# Altium schematic symbol library 2024-01-13_18-25-12.SchLib: 1 symbol
Pins are listed as number, name and electrical type; pins without a type are passive.

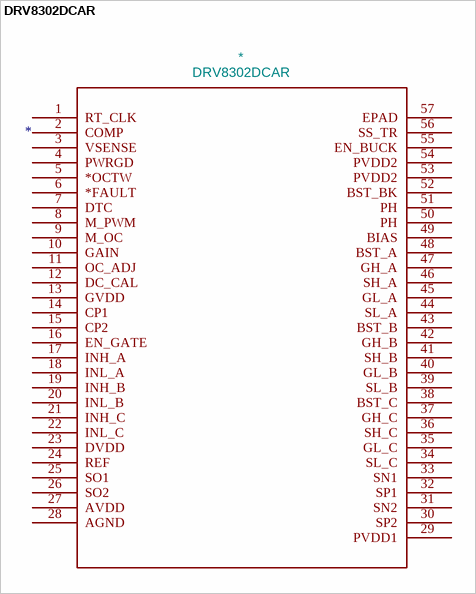
[diagram p0: symbol DRV8302DCAR]

## DRV8302DCAR
designator *  value DRV8302DCAR
ki_fp_filters: DCA56_6P35X3P61 DCA56_6P35X3P61-M DCA56_6P35X3P61-L; Footprint: DCA56_6P35X3P61; Supplier: DRV8302DCAR; ki_keywords: DRV8302DCAR
footprint DCA56_6P35X3P61
pins: 1 RT_CLK, 2 COMP, 3 VSENSE, 4 PWRGD, 5 *OCTW, 6 *FAULT, 7 DTC, 8 M_PWM, 9 M_OC, 10 GAIN, 11 OC_ADJ, 12 DC_CAL, 13 GVDD, 14 CP1, 15 CP2, 16 EN_GATE, 17 INH_A, 18 INL_A, 19 INH_B, 20 INL_B, 21 INH_C, 22 INL_C, 23 DVDD, 24 REF, 25 SO1, 26 SO2, 27 AVDD, 28 AGND, 29 PVDD1, 30 SP2, 31 SN2, 32 SP1, 33 SN1, 34 SL_C, 35 GL_C, 36 SH_C, 37 GH_C, 38 BST_C, 39 SL_B, 40 GL_B, 41 SH_B, 42 GH_B, 43 BST_B, 44 SL_A, 45 GL_A, 46 SH_A, 47 GH_A, 48 BST_A, 49 BIAS, 50 PH, 51 PH, 52 BST_BK, 53 PVDD2, 54 PVDD2, 55 EN_BUCK, 56 SS_TR, 57 EPAD